# Altium footprint library PCB_Lib.PcbLib: 296 footprints (part 6 of 19)
Each footprint in its own frame and in the unit in brackets; x right, y up, seen from the top. Pads: shape width x height; smd on the part's side, far side on the other; paste and mask are expansions set on the pad; w line width, h text height; cw(c..) or ccw(c..) is an arc to the next point about the centre after c.
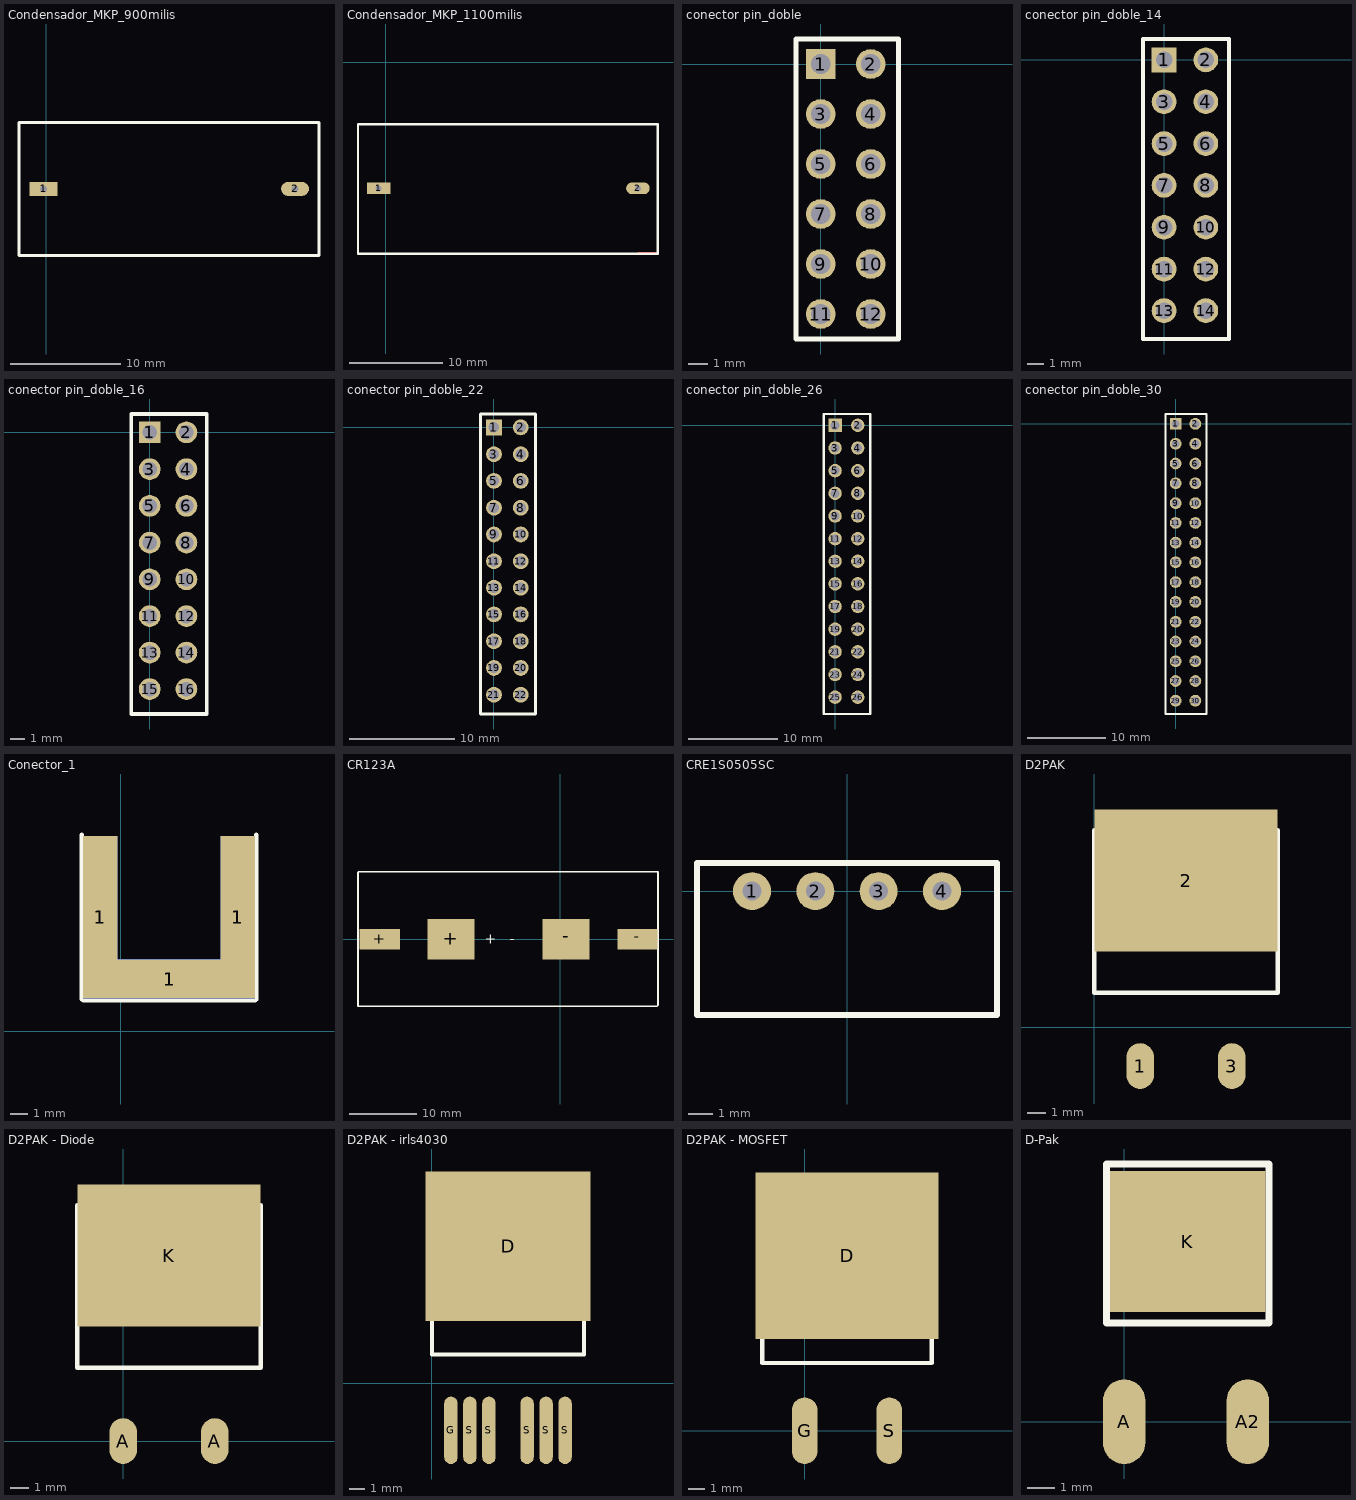
[diagram p5: the footprints below, top view; thin cyan lines are the x and y axes]

## Condensador_MKP_900milis [mm] "10nF 2000v"
height 22.5
pads (2):
  rect 2.54x1.27 hole 0.635: 1(-0.25,16.025)
  oval 2.54x1.27 hole 0.635: 2(22.575,16.025)
Top Overlay:
  lines w0.254: -2.475,9.975 24.75,9.975 24.75,22.05 -2.475,22.05 -2.475,9.975

## Condensador_MKP_1100milis [mm] "2u2 22u 1u"
height 28
pads (2):
  rect 2.54x1.27 hole 0.635: 1(-0.775,-13.6)
  oval 2.54x1.27 hole 0.635: 2(27.165,-13.6)
Top Layer:
  lines w0.254: 27.25,-20.6 29.325,-20.6
Top Overlay:
  lines w0.254: -3,-20.65 -3,-6.7 29.3,-6.7 29.3,-20.65 -3,-20.65

## conector pin_doble [mm]
pads (12):
  rect 1.5x1.5 hole 1: 1(0,0)
  round 1.5 hole 1: 2(2.54,0) 3(0,-2.54) 4(2.54,-2.54) 5(0,-5.08) 6(2.54,-5.08) 7(0,-7.62) 8(2.54,-7.62) 9(0,-10.16) 10(2.54,-10.16) 11(0,-12.7) 12(2.54,-12.7)
Top Overlay:
  lines w0.254: 0.635,1.27 3.937,1.27 3.937,-13.97 -1.27,-13.97 -1.27,1.27 1.905,1.27

## conector pin_doble_14 [mm]
pads (14):
  rect 1.5x1.5 hole 1: 1(0,0)
  round 1.5 hole 1: 2(2.54,0) 3(0,-2.54) 4(2.54,-2.54) 5(0,-5.08) 6(2.54,-5.08) 7(0,-7.62) 8(2.54,-7.62) 9(0,-10.16) 10(2.54,-10.16) 11(0,-12.7) 12(2.54,-12.7) 13(0,-15.225) 14(2.54,-15.225)
Top Overlay:
  lines w0.254: 0.635,1.27 3.937,1.27 3.937,-16.95 -1.27,-16.95 -1.27,1.27 1.905,1.27

## conector pin_doble_16 [mm]
pads (16):
  rect 1.5x1.5 hole 1: 1(0,0)
  round 1.5 hole 1: 2(2.54,0) 3(0,-2.54) 4(2.54,-2.54) 5(0,-5.08) 6(2.54,-5.08) 7(0,-7.62) 8(2.54,-7.62) 9(0,-10.16) 10(2.54,-10.16) 11(0,-12.7) 12(2.54,-12.7) 13(0,-15.225) 14(2.54,-15.225) 15(0,-17.75) 16(2.54,-17.75)
Top Overlay:
  lines w0.254: 0.635,1.27 3.937,1.27 3.937,-19.475 -1.27,-19.475 -1.27,1.27 1.905,1.27

## conector pin_doble_22 [mm]
pads (22):
  rect 1.5x1.5 hole 1: 1(0,0)
  round 1.5 hole 1: 2(2.54,0) 3(0,-2.54) 4(2.54,-2.54) 5(0,-5.08) 6(2.54,-5.08) 7(0,-7.62) 8(2.54,-7.62) 9(0,-10.16) 10(2.54,-10.16) 11(0,-12.7) 12(2.54,-12.7) 13(0,-15.225) 14(2.54,-15.225) 15(0,-17.75) 16(2.54,-17.75) 17(0,-20.29) 18(2.54,-20.29) 19(0,-22.83) 20(2.54,-22.83) 21(0,-25.37) 22(2.54,-25.37)
Top Overlay:
  lines w0.254: 0.635,1.27 3.937,1.27 3.937,-27.203 -1.27,-27.203 -1.27,1.27 1.905,1.27

## conector pin_doble_26 [mm]
pads (26):
  rect 1.5x1.5 hole 1: 1(0,0)
  round 1.5 hole 1: 2(2.54,0) 3(0,-2.54) 4(2.54,-2.54) 5(0,-5.08) 6(2.54,-5.08) 7(0,-7.62) 8(2.54,-7.62) 9(0,-10.16) 10(2.54,-10.16) 11(0,-12.7) 12(2.54,-12.7) 13(0,-15.225) 14(2.54,-15.225) 15(0,-17.75) 16(2.54,-17.75) 17(0,-20.29) 18(2.54,-20.29) 19(0,-22.83) 20(2.54,-22.83) 21(0,-25.37) 22(2.54,-25.37) 23(0,-27.91) 24(2.54,-27.91) 25(0,-30.45) 26(2.54,-30.45)
Top Overlay:
  lines w0.254: 0.635,1.27 3.937,1.27 3.937,-32.334 -1.27,-32.334 -1.27,1.27 1.905,1.27

## conector pin_doble_30 [mm]
pads (30):
  rect 1.5x1.5 hole 1: 1(0,0)
  round 1.5 hole 1: 2(2.54,0) 3(0,-2.54) 4(2.54,-2.54) 5(0,-5.08) 6(2.54,-5.08) 7(0,-7.62) 8(2.54,-7.62) 9(0,-10.16) 10(2.54,-10.16) 11(0,-12.7) 12(2.54,-12.7) 13(0,-15.225) 14(2.54,-15.225) 15(0,-17.75) 16(2.54,-17.75) 17(0,-20.29) 18(2.54,-20.29) 19(0,-22.83) 20(2.54,-22.83) 21(0,-25.37) 22(2.54,-25.37) 23(0,-27.91) 24(2.54,-27.91) 25(0,-30.45) 26(2.54,-30.45) 27(0,-32.975) 28(2.54,-32.975) 29(0,-35.5) 30(2.54,-35.5)
Top Overlay:
  lines w0.254: 0.635,1.27 3.937,1.27 3.937,-37.211 -1.27,-37.211 -1.27,1.27 1.905,1.27

## Conector_1 [mm]
pads (6):
  rect 2x9.5 smd: 1(-1.2,6.65) 1(6.825,6.65)
  rect 2x9.5 smd far side: 1(-1.2,6.65) 1(6.825,6.65)
  rect 7.5x2.3 smd: 1(2.85,3.05)
  rect 7.5x2.3 smd far side: 1(2.85,3.05)
Top Overlay:
  lines w0.254: -2.275,11.475 -2.275,1.875 ; 7.9,11.475 7.9,1.85 ; -2.275,1.875 -2.2,1.8 ; -2.275,1.875 -2.2,1.8 ; -2.2,1.8 7.85,1.8 ; 7.85,1.8 7.9,1.85 ; 7.85,1.8 7.9,1.85

## CR123A [mm]
pads (4):
  rect 6x3 smd: +(-26.85,-0.025) -(11.475,-0.025)
  rect 7x6 smd: +(-16.25,-0.025) -(0.875,-0.025)
Top Layer:
  text "+   -" at -11.2,-0.675 h1.52
Top Overlay:
  lines w0.254: -30.075,-9.975 14.375,-9.975 14.525,-9.825 14.525,-0.2 14.525,10.025 -30,10.025 -30.075,9.95 -30.075,-9.975
  text "+   -" at -11.2,-0.675 h1.52

## CRE1S0505SC [mil]
height 393.7
pads (4):
  round 60 hole 30: 1(-150,0) 2(-50,0) 3(50,0) 4(150,0)
Top Overlay:
  lines w10: -237.01,-195.67 -237.01,44.49 237.01,44.49 237.01,-195.67 -237.01,-195.67

## D2PAK [mil] "TO220-superficie"
pads (3):
  oval 60x100 smd: 1(100,-85) 3(300,-85)
  rect 400x310 smd: 2(200,320)
Top Overlay:
  lines w10: 0,75 400,75 400,430 0,430 0,75

## D2PAK - Diode [mil] "TO220-superficie"
pads (3):
  oval 60x100 smd: A(0,0) A(200,0)
  rect 400x310 smd: K(100,405)
Top Overlay:
  lines w10: -100,160 -100,515 300,515 300,160 -100,160

## D2PAK - irls4030 [mm] "TO220-superficie"
pads (7):
  rect 11x10 smd: D(5.08,9.128)
  oval 0.9x4.5 smd: G(1.27,-3.159) S(2.54,-3.159) S(3.81,-3.159) S(6.35,-3.159) S(7.62,-3.159) S(8.89,-3.159)
Top Overlay:
  lines w0.254: 0,1.905 0,10.922 10.16,10.922 10.16,1.905 0,1.905

## D2PAK - MOSFET [mm] "TO220-superficie"
pads (3):
  rect 11x10 smd: D(2.54,10.5)
  oval 1.524x4 smd: G(0,0) S(5.08,0)
Top Overlay:
  lines w0.254: -2.54,4.064 7.62,4.064 7.62,13.081 -2.54,13.081 -2.54,4.064

## D-Pak [mil]
pads (3):
  oval 60x120 smd: A(0,0) A2(175,0)
  rect 220x200 smd: K(90,255)
Top Overlay:
  lines w10: -25,140 205,140 205,365 -25,365 -25,140